# EAGLE library part TMP390A3DRLT (library Sensor)
SENSOR TEMPERATURE Manufacturer's datasheet <http://www.ti.com/lit/ds/symlink/tmp390.pdf>
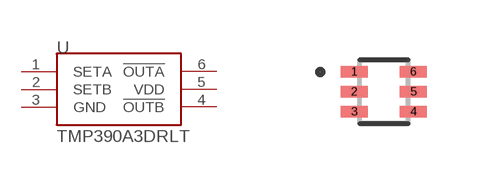
[diagram p2: symbol with the pads of TMP390A3DRLT; footprint TMP390A3DRLT]

Designator prefix U

## TMP390A3DRLT (CREATED_BY: PCBLayout.com; DIGIKEY_PARTNO: 296-53505-2-ND; MANUFACTURER: Texas Instruments; MPN: TMP390A3DRLT; PACKAGE: SOT-563)  [TMP390A3DRLT]
1  SETA  in
2  SETB  in
3  GND  pwr
4  !OUTB  out
5  VDD  pwr
6  !OUTA  out

## Footprint TMP390A3DRLT (pad centres in mm)
smd 0.67 x 0.3: 1 -0.74,0.5; 2 -0.74,0; 3 -0.74,-0.5; 4 0.74,-0.5; 5 0.74,0; 6 0.74,0.5